# Altium schematic symbol library CK45-E3AD103ZYGNA.SchLib: 2 symbols
Pins are listed as number, name and electrical type; pins without a type are passive.

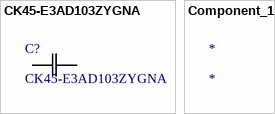
[diagram p0: symbols CK45-E3AD103ZYGNA to Component_1]

## CK45-E3AD103ZYGNA
designator C?
No Description Available; Built_By: EMA_Matt; Vendor: TDK; SourceLibrary: TDK_2019-10-09; Type: DEV; Copyright: Copyright (C) 2018 Accelerated Designs. All rights reserved; Manufacturer_Part_Number: CK45-E3AD103ZYGNA; RefDes: RefDes
footprint CAP_CK45E3103_TDK
pins: 1, 2

## Component_1
designator *